# Altium schematic symbol library SN75176BDR_[C7063].Schlib: 1 symbol
Pins are listed as number, name and electrical type; pins without a type are passive.

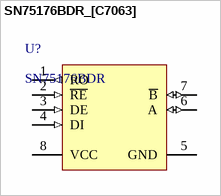
[diagram p0: symbol SN75176BDR_[C7063]]

## SN75176BDR_[C7063]
designator U?, comment SN75176BDR
RS-485/RS-422
footprint SOIC-8_150mil
pins: 1 RO (out), 2 ~{RE} (in), 3 DE (in), 4 DI (in), 5 GND (power), 6 A (io), 7 ~{B} (io), 8 VCC (power)